# Altium schematic symbol library OptoCoupler.SchLib: 2 symbols
Pins are listed as number, name and electrical type; pins without a type are passive.

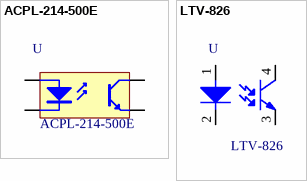
[diagram p0: symbols ACPL-214-500E to LTV-826]

## ACPL-214-500E
designator U  value ACPL-214-500E  (hidden comment: *)
Manufacturer: AVAGO Technologies; Current: 20 mA; Forward Voltage: 1.2 V; Unit Price: 0,33 €; Manufacturer Code: ACPL-214-500E; Farnell Code: 1602610
footprint SO4
pins: 1 A "Anode", 2 K "Cathode", 3 E "Emitter", 4 C "Collector"

## LTV-826
designator U  value LTV-826  (hidden comment: *)
footprint DIP4
pins: 1, 2, 3, 4